# Altium schematic symbol library SCH - MCU - ATSAM - MICROCHIP SAMD09D14A-MU QFN24.SchLib: 1 symbol
Pins are listed as number, name and electrical type; pins without a type are passive.

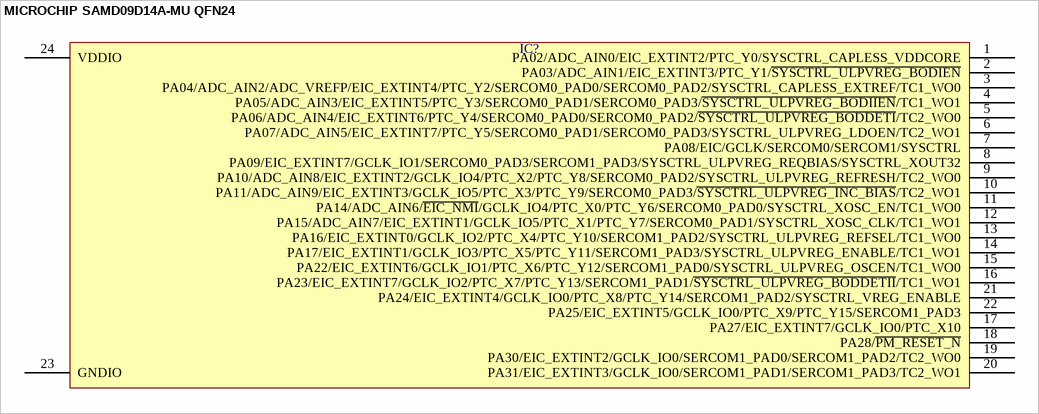
[diagram p0: symbol MICROCHIP SAMD09D14A-MU QFN24]

## MICROCHIP SAMD09D14A-MU QFN24
designator IC?  (value not drawn)
pins: 1 PA02/ADC_AIN0/EIC_EXTINT2/PTC_Y0/SYSCTRL_CAPLESS_VDDCORE, 2 PA03/ADC_AIN1/EIC_EXTINT3/PTC_Y1/~{SYSCTRL_ULPVREG_BODIEN}, 3 PA04/ADC_AIN2/ADC_VREFP/EIC_EXTINT4/PTC_Y2/SERCOM0_PAD0/SERCOM0_PAD2/SYSCTRL_CAPLESS_EXTREF/TC1_WO0, 4 PA05/ADC_AIN3/EIC_EXTINT5/PTC_Y3/SERCOM0_PAD1/SERCOM0_PAD3/~{SYSCTRL_ULPVREG_BODIIEN}/TC1_WO1, 5 PA06/ADC_AIN4/EIC_EXTINT6/PTC_Y4/SERCOM0_PAD0/SERCOM0_PAD2/~{SYSCTRL_ULPVREG_BODDETI}/TC2_WO0, 6 PA07/ADC_AIN5/EIC_EXTINT7/PTC_Y5/SERCOM0_PAD1/SERCOM0_PAD3/SYSCTRL_ULPVREG_LDOEN/TC2_WO1, 7 PA08/EIC/GCLK/SERCOM0/SERCOM1/SYSCTRL, 8 PA09/EIC_EXTINT7/GCLK_IO1/SERCOM0_PAD3/SERCOM1_PAD3/SYSCTRL_ULPVREG_REQBIAS/SYSCTRL_XOUT32, 9 PA10/ADC_AIN8/EIC_EXTINT2/GCLK_IO4/PTC_X2/PTC_Y8/SERCOM0_PAD2/SYSCTRL_ULPVREG_REFRESH/TC2_WO0, 10 PA11/ADC_AIN9/EIC_EXTINT3/GCLK_IO5/PTC_X3/PTC_Y9/SERCOM0_PAD3/~{SYSCTRL_ULPVREG_INC_BIAS}/TC2_WO1, 11 PA14/ADC_AIN6/~{EIC_NMI}/GCLK_IO4/PTC_X0/PTC_Y6/SERCOM0_PAD0/SYSCTRL_XOSC_EN/TC1_WO0, 12 PA15/ADC_AIN7/EIC_EXTINT1/GCLK_IO5/PTC_X1/PTC_Y7/SERCOM0_PAD1/SYSCTRL_XOSC_CLK/TC1_WO1, 13 PA16/EIC_EXTINT0/GCLK_IO2/PTC_X4/PTC_Y10/SERCOM1_PAD2/SYSCTRL_ULPVREG_REFSEL/TC1_WO0, 14 PA17/EIC_EXTINT1/GCLK_IO3/PTC_X5/PTC_Y11/SERCOM1_PAD3/SYSCTRL_ULPVREG_ENABLE/TC1_WO1, 15 PA22/EIC_EXTINT6/GCLK_IO1/PTC_X6/PTC_Y12/SERCOM1_PAD0/SYSCTRL_ULPVREG_OSCEN/TC1_WO0, 16 PA23/EIC_EXTINT7/GCLK_IO2/PTC_X7/PTC_Y13/SERCOM1_PAD1/~{SYSCTRL_ULPVREG_BODDETII}/TC1_WO1, 17 PA27/EIC_EXTINT7/GCLK_IO0/PTC_X10, 18 PA28/~{PM_RESET_N}, 19 PA30/EIC_EXTINT2/GCLK_IO0/SERCOM1_PAD0/SERCOM1_PAD2/TC2_WO0, 20 PA31/EIC_EXTINT3/GCLK_IO0/SERCOM1_PAD1/SERCOM1_PAD3/TC2_WO1, 21 PA24/EIC_EXTINT4/GCLK_IO0/PTC_X8/PTC_Y14/SERCOM1_PAD2/SYSCTRL_VREG_ENABLE, 22 PA25/EIC_EXTINT5/GCLK_IO0/PTC_X9/PTC_Y15/SERCOM1_PAD3, 23 GNDIO, 24 VDDIO